# Altium footprint library Mechanical_Devices.PcbLib: 1 footprints
Each footprint in its own frame and in the unit in brackets; x right, y up, seen from the top. Pads: shape width x height; smd on the part's side, far side on the other; paste and mask are expansions set on the pad; w line width, h text height; cw(c..) or ccw(c..) is an arc to the next point about the centre after c.
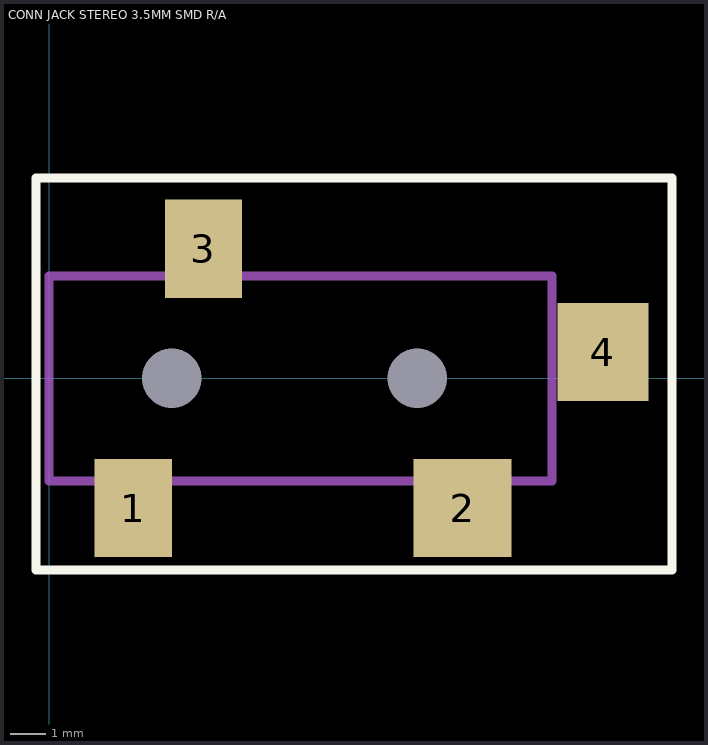
[diagram p0: the footprint, top view; thin cyan lines are the x and y axes]

## CONN JACK STEREO 3.5MM SMD R/A [mm]
height 5.004
pads (6):
  rect 2.2x2.8 smd: 1(2.4,-3.7) 3(4.4,3.7)
  rect 2.8x2.8 smd: 2(11.8,-3.7)
  rect 2.6x2.8 smd: 4(15.8,0.75)
  round 0 hole 1.7 unplated: ""(3.5,0) ""(10.5,0)
Top Overlay:
  lines w0.254: -0.381,-5.461 -0.381,5.715 17.78,5.715 17.78,-5.461 -0.381,-5.461
Mechanical 1:
  lines w0.254: 0,-2.921 0,2.921 14.351,2.921 14.351,-2.921 0,-2.921